# Altium schematic symbol library U_TPS62745DSSR.SchLib: 1 symbol
Pins are listed as number, name and electrical type; pins without a type are passive.

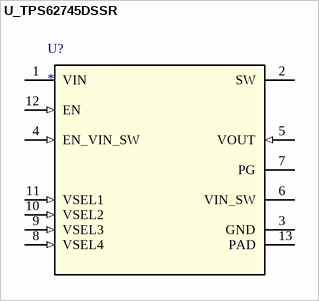
[diagram p0: symbol U_TPS62745DSSR]

## U_TPS62745DSSR
designator U?
No Description Available; Mfr_Name: Texas Instruments; PartNumber: TPS62745DSSR; Alternate_PartNumber: TPS62745DSST; CompType: IC; TYPE: TYPE; RefDes: RefDes; Application_BuildNumber: *; PackageReference: DSS0012A; MountType: SMT; RoHS: Y; Manufacturer: Texas Instruments
footprint DSS0012A
footprint DSS0012A
pins: 1 VIN (power), 2 SW (power), 3 GND (power), 4 EN_VIN_SW (in), 5 VOUT (in), 6 VIN_SW (power), 7 PG (oc), 8 VSEL4 (in), 9 VSEL3 (in), 10 VSEL2 (in), 11 VSEL1 (in), 12 EN (in), 13 PAD